# Altium footprint library SoftRobotics.PcbLib: 5 footprints
Each footprint in its own frame and in the unit in brackets; x right, y up, seen from the top. Pads: shape width x height; smd on the part's side, far side on the other; paste and mask are expansions set on the pad; w line width, h text height; cw(c..) or ccw(c..) is an arc to the next point about the centre after c.
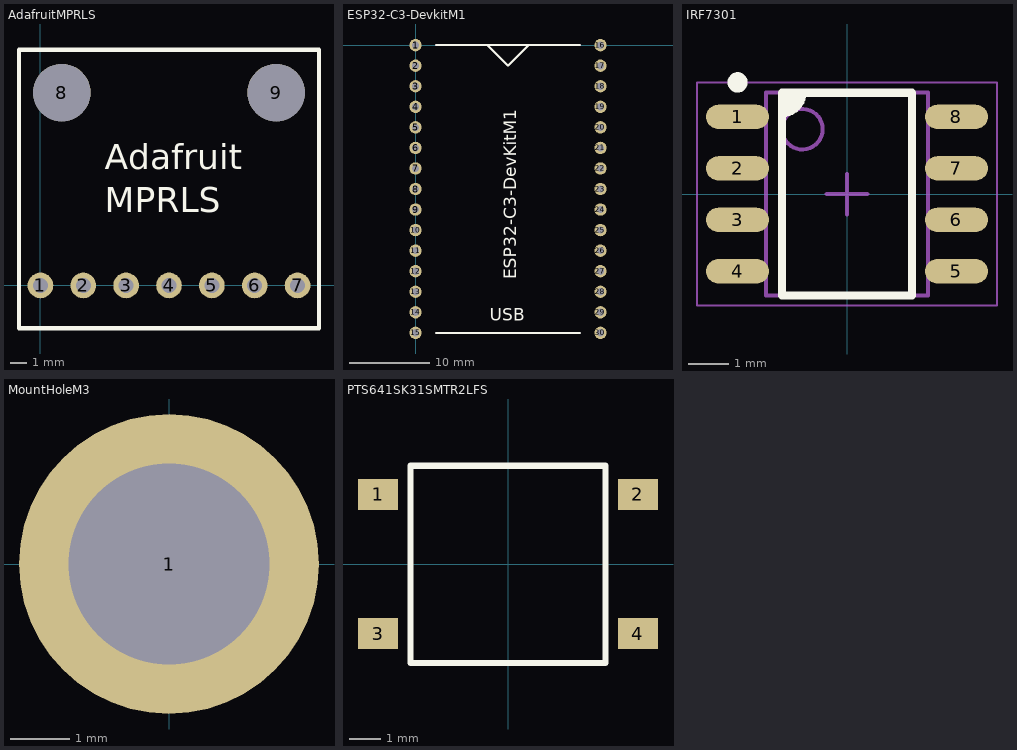
[diagram p0: the footprints below, top view; thin cyan lines are the x and y axes]

## AdafruitMPRLS [mil]
pads (9):
  round 60 hole 35: 1(0,0) 2(100,0) 3(200,0) 4(300,0) 5(400,0) 6(500,0) 7(600,0)
  round 134 hole 134 mask+16: 8(50,450) 9(550,450)
Top Overlay:
  lines w10: -50,-100 650,-100 650,550 -50,550 -50,-100
  text "MPRLS" at 149.98,151.04 h100
  text "Adafruit" at 150.08,251.04 h100

## ESP32-C3-DevkitM1 [mil]
pads (30):
  round 60 hole 35: 1(0,0) 2(0,-100) 3(0,-200) 4(0,-300) 5(0,-400) 6(0,-500) 7(0,-600) 8(0,-700) 9(0,-800) 10(0,-900) 11(0,-1000) 12(0,-1100) 13(0,-1200) 14(0,-1300) 15(0,-1400) 16(900,0) 17(900,-100) 18(900,-200) 19(900,-300) 20(900,-400) 21(900,-500) 22(900,-600) 23(900,-700) 24(900,-800) 25(900,-900) 26(900,-1000) 27(900,-1100) 28(900,-1200) 29(900,-1300) 30(900,-1400)
Top Overlay:
  lines w10: 100,-1400 800,-1400 ; 100,0 800,0 ; 350,0 450,-100 550,0
  text "ESP32-C3-DevKitM1" at 490,-1140 h60
  text "USB" at 360,-1340 h60

## IRF7301 [mm] "SOP, 8-Leads, Body 4.90x3.90mm, Pitch 1.27mm, IPC Medium Density"
height 1.75
pads (8):
  oval 1.55x0.6 smd: 1(-2.7,1.905) 2(-2.7,0.635) 3(-2.7,-0.635) 4(-2.7,-1.905) 5(2.7,-1.905) 6(2.7,-0.635) 7(2.7,0.635) 8(2.7,1.905)
Top Overlay:
  circle w0.25: c-2.7,2.755 r0.125
  region: -1.6,2.5 -1.6,2 -1.4,2 -1.1,2.3 -1.1,2.5
  lines w0.2: -1.6,2 ccw(c-1.6,2.5) -1.1,2.5 ; -1.6,-2.5 1.6,-2.5 1.6,2.5 -1.6,2.5 -1.6,-2.5
Mechanical 13:
  circle w0.1: c-1.1,1.6 r0.5
  lines w0.1: -2,-2.5 2,-2.5 2,2.5 -2,2.5 -2,-2.5
Mechanical 15:
  lines w0.05: -3.7,-2.75 3.7,-2.75 3.7,2.75 -3.7,2.75 -3.7,-2.75
  lines w0.1: -0.5,0 0.5,0 ; 0,-0.5 0,0.5
3D body "SO-8.STEP": height 1.5, standoff 0, extent -3.014,-2.45 3.014,2.45

## MountHoleM3 [mil]
pads (1):
  round 200 hole 134 mask+14: 1(0,0)

## PTS641SK31SMTR2LFS [mm] "SPST Push Button"
pads (4):
  rect 1.3x1 smd: 1(-4.2,2.25) 2(4.2,2.25) 3(-4.2,-2.25) 4(4.2,-2.25)
Top Overlay:
  lines w0.2: -3.15,-3.2 -3.15,3.175 3.15,3.175 3.15,-3.2 -3.15,-3.2
Mechanical 13:
  lines w0.1: -3.15,-3.2 -3.15,3.2 3.15,3.2 3.15,-3.2 -3.15,-3.2
3D body "PTS641SK31SMTR2LFS.sldprt": height 3.1, standoff 0, extent -4.2,-3.306 4.2,3.306